# EAGLE library part LM2576-T05D (library 2673)
LM2673/LM2673HV Series SIMPLE SWITCHER® 3A Step-Down Voltage Regulator STAGGERED PACKAGE
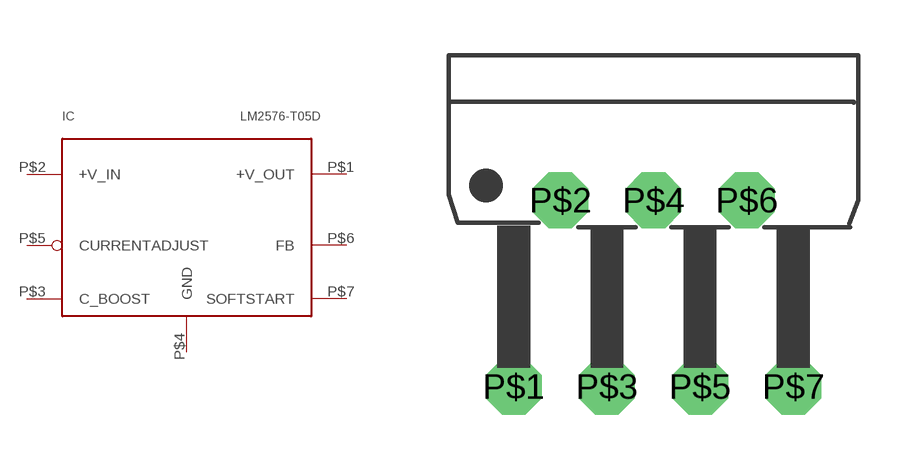
[diagram p0: symbol with the pads of TO220-5_STAGGERED; footprint TO220-5_STAGGERED]

Designator prefix IC

## LM2576-T05D  [TO220-5_STAGGERED]
P$1  +V_OUT  out
P$2  +V_IN  in
P$3  C_BOOST  in
P$4  GND  pwr
P$5  CURRENTADJUST  in
P$6  FB  in
P$7  SOFTSTART  in

## Footprint TO220-5_STAGGERED (pad centres in mm)
drill 1.016 octagon: P$1 0,0; P$2 1.27,5.08; P$3 2.54,0; P$4 3.81,5.08; P$5 5.08,0; P$6 6.35,5.08; P$7 7.62,0